# Altium footprint library LM386.PcbLib: 1 footprints
Each footprint in its own frame and in the unit in brackets; x right, y up, seen from the top. Pads: shape width x height; smd on the part's side, far side on the other; paste and mask are expansions set on the pad; w line width, h text height; cw(c..) or ccw(c..) is an arc to the next point about the centre after c.
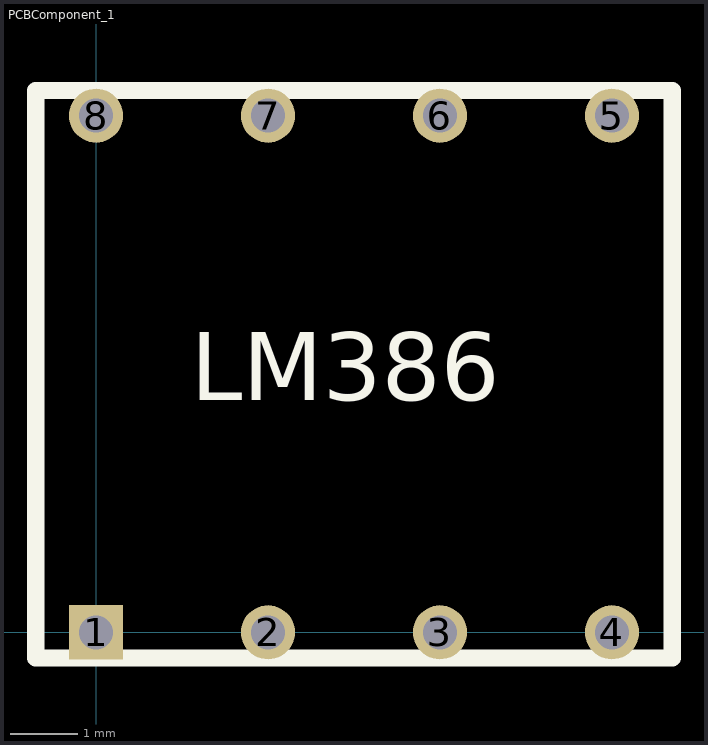
[diagram p0: the footprint, top view; thin cyan lines are the x and y axes]

## PCBComponent_1 [mm]
pads (8):
  rect 0.8x0.8 hole 0.5: 1(0,0)
  round 0.8 hole 0.5: 2(2.54,0) 3(5.08,0) 4(7.62,0) 5(7.62,7.63) 6(5.08,7.63) 7(2.54,7.63) 8(0,7.63)
Top Overlay:
  lines w0.254: -0.889,-0.381 8.509,-0.381 8.509,8.001 -0.889,8.001 -0.889,-0.381
  text "LM386" at 1.397,3.429 h1
3D body "LM386N-4_NOPB.stp": height 4.31, standoff -3.27, extent -0.826,-0.292 8.445,7.912